# Altium footprint library MLX90614ESFACA.PcbLib: 1 footprints
Each footprint in its own frame and in the unit in brackets; x right, y up, seen from the top. Pads: shape width x height; smd on the part's side, far side on the other; paste and mask are expansions set on the pad; w line width, h text height; cw(c..) or ccw(c..) is an arc to the next point about the centre after c.
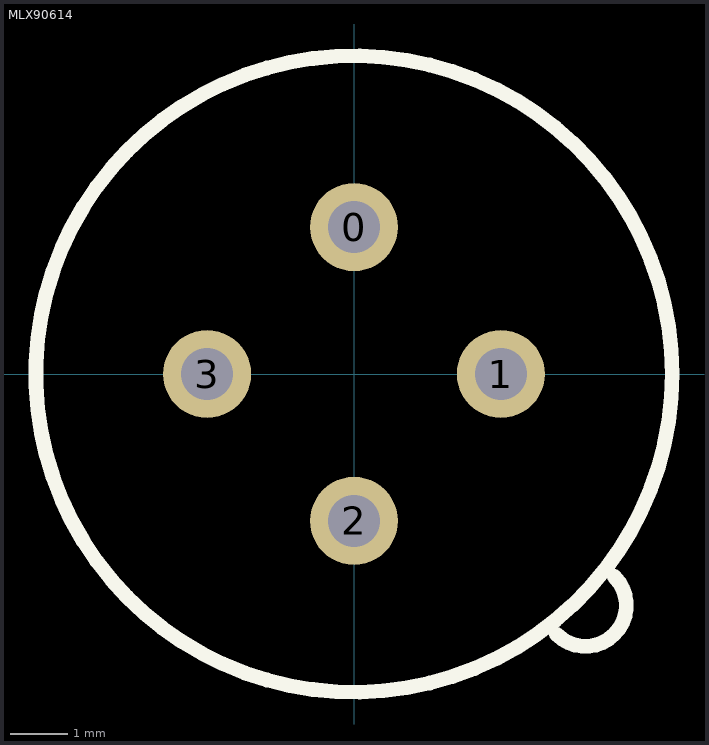
[diagram p0: the footprint, top view; thin cyan lines are the x and y axes]

## MLX90614 [mil]
pads (4):
  round 60 hole 35.43: 0(0,100) 1(100,0) 2(0,-100) 3(-100,0)
Top Overlay:
  circle w10: c0,0 r216.54
  lines w10: 137.8,-177.17 ccw(c157.48,-157.48) 177.17,-137.8